# Altium footprint library SON65P200X80-6N.PcbLib: 1 footprints
Each footprint in its own frame and in the unit in brackets; x right, y up, seen from the top. Pads: shape width x height; smd on the part's side, far side on the other; paste and mask are expansions set on the pad; w line width, h text height; cw(c..) or ccw(c..) is an arc to the next point about the centre after c.
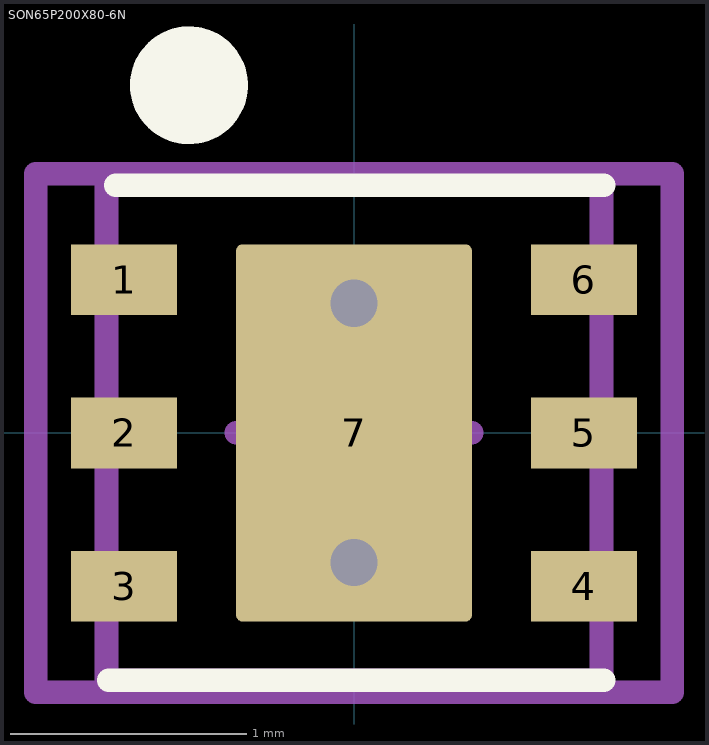
[diagram p0: the footprint, top view; thin cyan lines are the x and y axes]

## SON65P200X80-6N [mm] "Texas Instruments DRL Package 6 Pins"
height 0.8
pads (7):
  rect 0.45x0.3 smd: 1(-0.975,0.65) 2(-0.975,0) 3(-0.975,-0.65) 4(0.975,-0.65) 5(0.975,0) 6(0.975,0.65)
  rrect5% 1x1.6 smd: 7(0,0)
via 0,0.55 diameter 0.5 hole 0.2
via 0,-0.55 diameter 0.5 hole 0.2
Top Overlay:
  circle w0.25: c-0.7,1.475 r0.125
  lines w0.1: -1.04,-1.05 1.06,-1.05 ; -1.01,1.05 1.06,1.05
Mechanical 13:
  lines w0.1: -1.05,1.05 -1.05,-1.05 1.05,-1.05 1.05,1.05 -1.02,1.05
Mechanical 15:
  lines w0.1: -0.5,0 0.5,0 ; 0,-0.5 0,0.5 ; -1.35,-1.1 1.35,-1.1 1.35,1.1 -1.35,1.1 -1.35,-1.1
3D body: height 0.8, standoff 0, extent -1.1,-1.1 1.1,1.1